# Altium footprint library LED3528_REVERSE.PcbLib: 1 footprints
Each footprint in its own frame and in the unit in brackets; x right, y up, seen from the top. Pads: shape width x height; smd on the part's side, far side on the other; paste and mask are expansions set on the pad; w line width, h text height; cw(c..) or ccw(c..) is an arc to the next point about the centre after c.
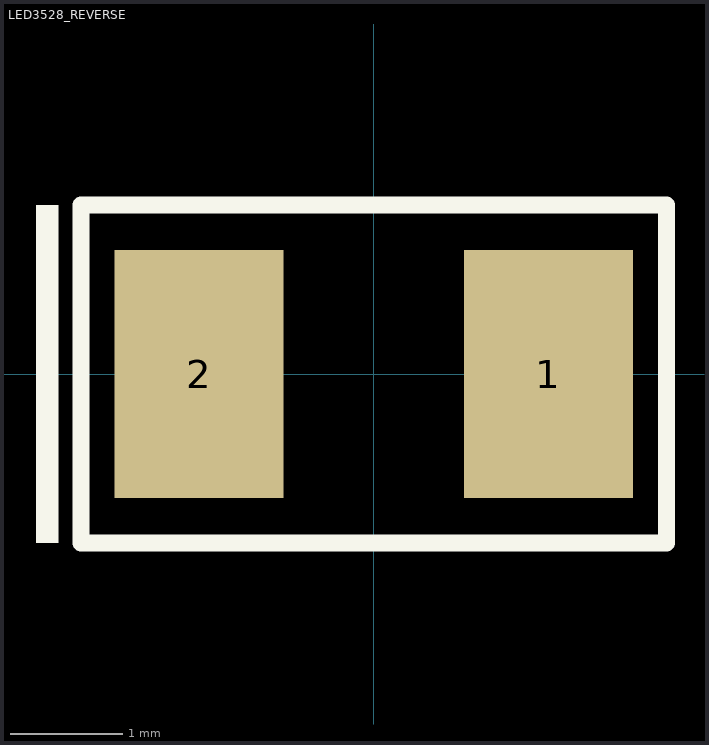
[diagram p0: the footprint, top view; thin cyan lines are the x and y axes]

## LED3528_REVERSE [mm] "LED 3528 (Reverse pin out)"
height 1.7
pads (2):
  rect 1.5x2.2 smd: 1(1.55,0) 2(-1.55,0)
Top Overlay:
  rectangle: -3,-1.5 -2.8,1.5
  lines w0.152: -2.6,-1.5 -2.6,1.5 2.6,1.5 2.6,-1.5 -2.6,-1.5
3D body "AA3528.STEP": height 1.91, standoff 0.01, extent -1.75,-1.4 1.75,1.4